# EAGLE library part 9601 (library dec-con)
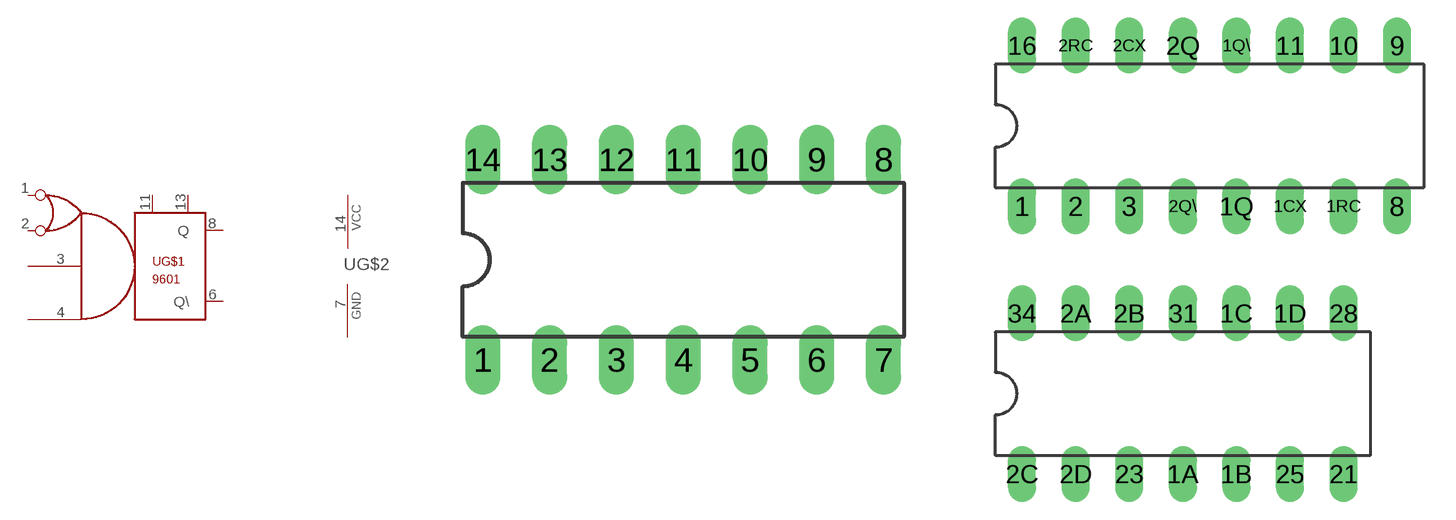
[diagram p4: symbol with the pads of DIL14; footprints DIL14, EXPERIMENTAL]

Designator prefix -; gates G$1=9601 G$2=PWRN

## 9601DEC  [DIL14]
1  G$1:P$1  in
2  G$1:P$2  in
3  G$1:P$3  in
4  G$1:P$4  in
6  G$1:Q\  out
7  G$2:GND  pwr
8  G$1:Q  out
11  G$1:P$5
13  G$1:P$6
14  G$2:VCC  pwr

## 9601SUBSTITUTE  [EXPERIMENTAL]
1A  G$1:P$1  in
1B  G$1:P$2  in
1C  G$1:P$3  in
1CX  G$1:P$5
1D  G$1:P$4  in
1Q  G$1:Q  out
1Q\  G$1:Q\  out
1RC  G$1:P$6
8  G$2:GND  pwr
16  G$2:VCC  pwr

## Footprint DIL14 (pad centres in mm)
Dual In Line Package
drill 0.813 long: 1 -7.62,-3.81; 2 -5.08,-3.81; 3 -2.54,-3.81; 4 0,-3.81; 5 2.54,-3.81; 6 5.08,-3.81; 7 7.62,-3.81; 8 7.62,3.81; 9 5.08,3.81; 10 2.54,3.81; 11 0,3.81; 12 -2.54,3.81; 13 -5.08,3.81; 14 -7.62,3.81

## Footprint EXPERIMENTAL (pad centres in mm)
Dual In Line Package
drill 0.813 long: 1 -8.89,2.54; 1A -1.27,-10.16; 1B 1.27,-10.16; 1C 1.27,-2.54; 1CX 3.81,2.54; 1D 3.81,-2.54; 1Q 1.27,2.54; 1Q\ 1.27,10.16; 1RC 6.35,2.54; 2 -6.35,2.54; 2A -6.35,-2.54; 2B -3.81,-2.54; 2C -8.89,-10.16; 2CX -3.81,10.16; 2D -6.35,-10.16; 2Q -1.27,10.16; 2Q\ -1.27,2.54; 2RC -6.35,10.16; 3 -3.81,2.54; 8 8.89,2.54; 9 8.89,10.16; 10 6.35,10.16; 11 3.81,10.16; 16 -8.89,10.16; 21 6.35,-10.16; 23 -3.81,-10.16; 25 3.81,-10.16; 28 6.35,-2.54; 31 -1.27,-2.54; 34 -8.89,-2.54